# EAGLE library part LTC3428 (library PowerProducts)
LT-Spice library generated with : ltspice.ulp from: D:/Program Files (x86)/LTC/LTspiceIV/lib/sym/PowerProducts/LTC3429*.asy at 07.10.2012 18:08:16
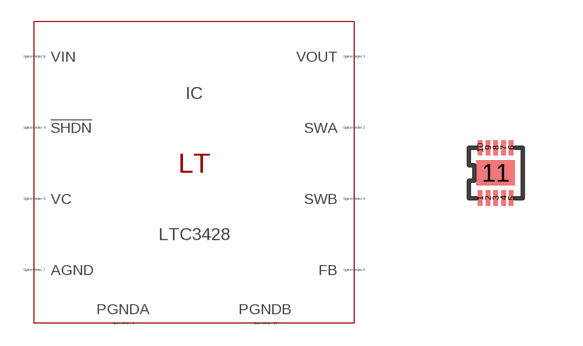
[diagram p183: symbol with the pads of DFN10(DD); footprint DFN10(DD)]

Designator prefix IC

## LTC3428 (SPICEMODEL: LTC3428.sub; SPICEPREFIX: X; VALUE2: LTC3428)  [DFN10(DD)]
1  PGNDA  pas
2  SWA  pas
3  VOUT  pas
4  !SHDN  pas
5  VC  pas
6  FB  pas
7  AGND  pas
8  VIN  pas
9  SWB  pas
10  PGNDB  pas
11  PGNDA  pas

## Footprint DFN10(DD) (pad centres in mm)
Package generated from: DFN10(DD).asc (!PADS-POWERPCB-V9.3-BASIC! DESIGN DATABASE ASCII FILE 1.0) with :import-pads-powerpcb-v5.ulp Version 1.0.1 at 04.10.2012 14:11:16
smd 0.116 x 0.387: 1 -0.387,-0.629; 2 -0.194,-0.629; 3 0,-0.629; 4 0.194,-0.629; 5 0.387,-0.629; 6 0.387,0.629; 7 0.194,0.629; 8 0,0.629; 9 -0.194,0.629; 10 -0.387,0.629
smd 0.968 x 0.629: 11 0,0